# EAGLE library part MAX44280 (library op-amp)
OP-AMP 1.8V, 50MHz, Low-Offset, Low-Power, Rail-to-Rail I/O Op Amp
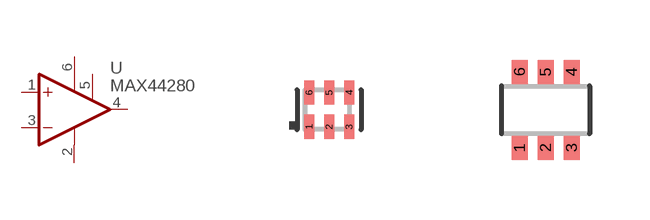
[diagram p65: symbol with the pads of UFDFN6; footprints UFDFN6, SC70-6]

Designator prefix U

## MAX44280AYT (DIGIKEY: MAX44280AYT+T-ND)  [UFDFN6]
1  +IN  in
2  VSS  pwr
3  -IN  in
4  OUT  out
5  SD  pas
6  VDD  pwr

## MAX44280AXT  [SC70-6]
Pads as for UFDFN6

## Footprint UFDFN6 (pad centres in mm)
UFDFN-6 6L Ultra Thin LGA http://pdfserv.maximintegrated.com/land_patterns/90-0233.PDF
smd 0.25 x 0.61: 1 -0.5,-0.43; 2 0,-0.43; 3 0.5,-0.43; 4 0.5,0.43; 5 0,0.43; 6 -0.5,0.43

## Footprint SC70-6 (pad centres in mm)
SC70 - DCK 0.65 mm pitch
smd 0.4 x 0.6: 1 -0.65,-0.95; 2 0,-0.95; 3 0.65,-0.95; 4 0.65,0.95; 5 0,0.95; 6 -0.65,0.95